# EAGLE library part 750510250 (library Wurth Electronics Midcom Inc - EAGLE Lib V2-1)
Package Style: EP13 Mounting: THT Pins: 10 pins Bobbin: 070-4821 Best pinouts for production vary per application. Please contact Wurth Electronics Midcom, Inc. for assistance with your custom design. Website: Wurth Electronics Midcom <http://www.we-online.com/midcom> Contact us Wurth Electronics Midcom, Inc. 121 Airport Dr. Watertown, SD 57201 Phone: (605) 886-4385 Fax: (605) 886-4486 E-Mail: midcom@we-online.com
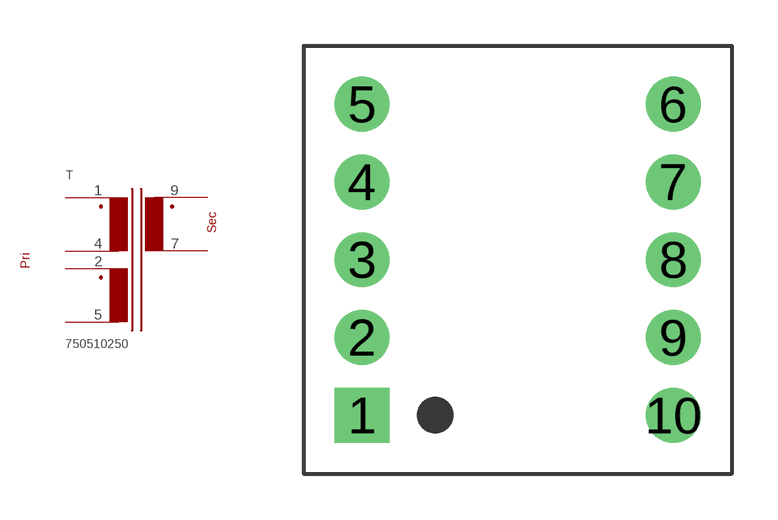
[diagram p155: symbol with the pads of EP13_THT_H_10PIN_(4821); footprint EP13_THT_H_10PIN_(4821)]

Designator prefix T

## 750510250  [EP13_THT_H_10PIN_(4821)]
1  1  pas
2  2  pas
4  4  pas
5  5  pas
7  7  pas
9  9  pas

## Footprint EP13_THT_H_10PIN_(4821) (pad centres in mm)
Package Style: EP13 Mounting: THT Pins: 10 Bobbin: 070-4821
drill 1.194 square: 1 -5.08,-5.08
drill 1.194: 2 -5.08,-2.54; 3 -5.08,0; 4 -5.08,2.54; 5 -5.08,5.08; 6 5.08,5.08; 7 5.08,2.54; 8 5.08,0; 9 5.08,-2.54; 10 5.08,-5.08